# EAGLE library part MCP48CVB01 (library FM_transmitter)
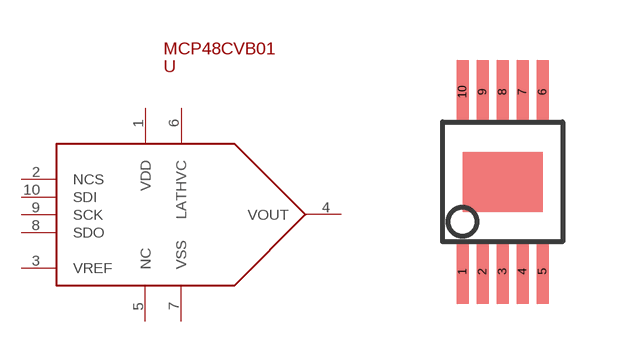
[diagram p7: symbol with the pads of MSOP-10; footprint MSOP-10]

Designator prefix -

## MCP48CVB01  [MSOP-10]
1  VDD
2  NCS
3  VREF
4  VOUT
5  NC
6  LATHVC
7  VSS
8  SDO
9  SCK
10  SDI

## Footprint MSOP-10 (pad centres in mm)
smd 0.3 x 1.6: 1 -1,-2.25; 2 -0.5,-2.25; 3 0,-2.25; 4 0.5,-2.25; 5 1,-2.25; 6 1,2.25; 7 0.5,2.25; 8 0,2.25; 9 -0.5,2.25; 10 -1,2.25